# EAGLE library part HDC1000_DSBGA (library HDC1000)
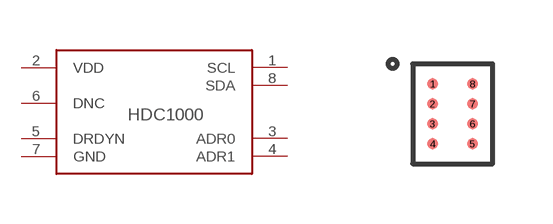
[diagram p0: symbol with the pads of DSBGA; footprint DSBGA]

Designator prefix -

## HDC1000_DSBGA  [DSBGA]
1  SCL
2  VDD  pwr
3  ADR0
4  ADR1
5  DRDYN
6  DNC  nc
7  GND  pwr
8  SDA

## Footprint DSBGA (pad centres in mm)
smd 0.27 x 0.27: 1 0,0; 2 0,-0.5; 3 0,-1; 4 0,-1.5; 5 1,-1.5; 6 1,-1; 7 1,-0.5; 8 1,0